# EAGLE library part XC9572XL-10VQG64C (library CPLD)
IC CPLD 72MC 10NS 64VQFP Manufacturer's datasheet <https://www.xilinx.com/support/documentation/data_sheets/ds057.pdf>
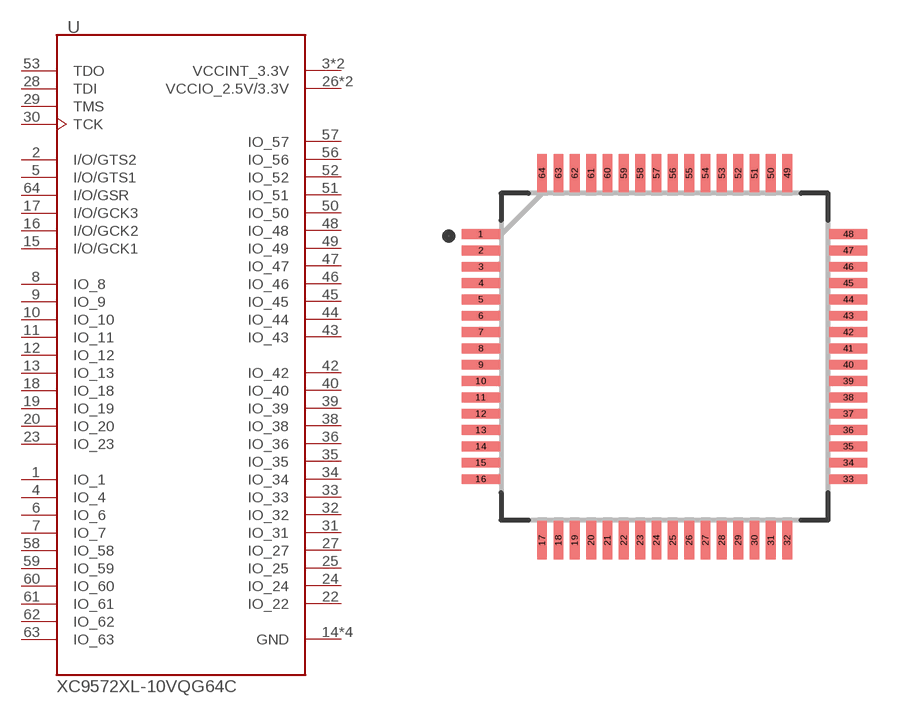
[diagram p2: symbol with the pads of VQFP64; footprint VQFP64]

Designator prefix U

## XC9572XL-10VQG64C64-VQFP-L (CREATED_BY: PCBLayout.com; DIGIKEY_PARTNO: 122-1388-ND; MANUFACTURER: Xilinx Inc; MPN: XC9572XL-10VQG64C; PACKAGE: VQFP-64)  [VQFP64]
1  IO_1
2  I/O/GTS2
3  VCCINT_3.3V  pwr
4  IO_4
5  I/O/GTS1
6  IO_6
7  IO_7
8  IO_8
9  IO_9
10  IO_10
11  IO_11
12  IO_12
13  IO_13
14  GND  pwr
15  I/O/GCK1
16  I/O/GCK2
17  I/O/GCK3
18  IO_18
19  IO_19
20  IO_20
21  GND  pwr
22  IO_22
23  IO_23
24  IO_24
25  IO_25
26  VCCIO_2.5V/3.3V  pwr
27  IO_27
28  TDI  in
29  TMS  in
30  TCK  in
31  IO_31
32  IO_32
33  IO_33
34  IO_34
35  IO_35
36  IO_36
37  VCCINT_3.3V  pwr
38  IO_38
39  IO_39
40  IO_40
41  GND  pwr
42  IO_42
43  IO_43
44  IO_44
45  IO_45
46  IO_46
47  IO_47
48  IO_48
49  IO_49
50  IO_50
51  IO_51
52  IO_52
53  TDO  in
54  GND  pwr
55  VCCIO_2.5V/3.3V  pwr
56  IO_56
57  IO_57
58  IO_58
59  IO_59
60  IO_60
61  IO_61
62  IO_62
63  IO_63
64  I/O/GSR

## Footprint VQFP64 (pad centres in mm)
smd 1.17 x 0.3: 1 -5.62,3.75; 2 -5.62,3.25; 3 -5.62,2.75; 4 -5.62,2.25; 5 -5.62,1.75; 6 -5.62,1.25; 7 -5.62,0.75; 8 -5.62,0.25; 9 -5.62,-0.25; 10 -5.62,-0.75; 11 -5.62,-1.25; 12 -5.62,-1.75; 13 -5.62,-2.25; 14 -5.62,-2.75; 15 -5.62,-3.25; 16 -5.62,-3.75; 33 5.62,-3.75; 34 5.62,-3.25; 35 5.62,-2.75; 36 5.62,-2.25; 37 5.62,-1.75; 38 5.62,-1.25; 39 5.62,-0.75; 40 5.62,-0.25; 41 5.62,0.25; 42 5.62,0.75; 43 5.62,1.25; 44 5.62,1.75; 45 5.62,2.25; 46 5.62,2.75; 47 5.62,3.25; 48 5.62,3.75
smd 0.3 x 1.17: 17 -3.75,-5.62; 18 -3.25,-5.62; 19 -2.75,-5.62; 20 -2.25,-5.62; 21 -1.75,-5.62; 22 -1.25,-5.62; 23 -0.75,-5.62; 24 -0.25,-5.62; 25 0.25,-5.62; 26 0.75,-5.62; 27 1.25,-5.62; 28 1.75,-5.62; 29 2.25,-5.62; 30 2.75,-5.62; 31 3.25,-5.62; 32 3.75,-5.62; 49 3.75,5.62; 50 3.25,5.62; 51 2.75,5.62; 52 2.25,5.62; 53 1.75,5.62; 54 1.25,5.62; 55 0.75,5.62; 56 0.25,5.62; 57 -0.25,5.62; 58 -0.75,5.62; 59 -1.25,5.62; 60 -1.75,5.62; 61 -2.25,5.62; 62 -2.75,5.62; 63 -3.25,5.62; 64 -3.75,5.62